# Altium footprint library E07-M1101D.PcbLib: 6 footprints
Each footprint in its own frame and in the unit in brackets; x right, y up, seen from the top. Pads: shape width x height; smd on the part's side, far side on the other; paste and mask are expansions set on the pad; w line width, h text height; cw(c..) or ccw(c..) is an arc to the next point about the centre after c.
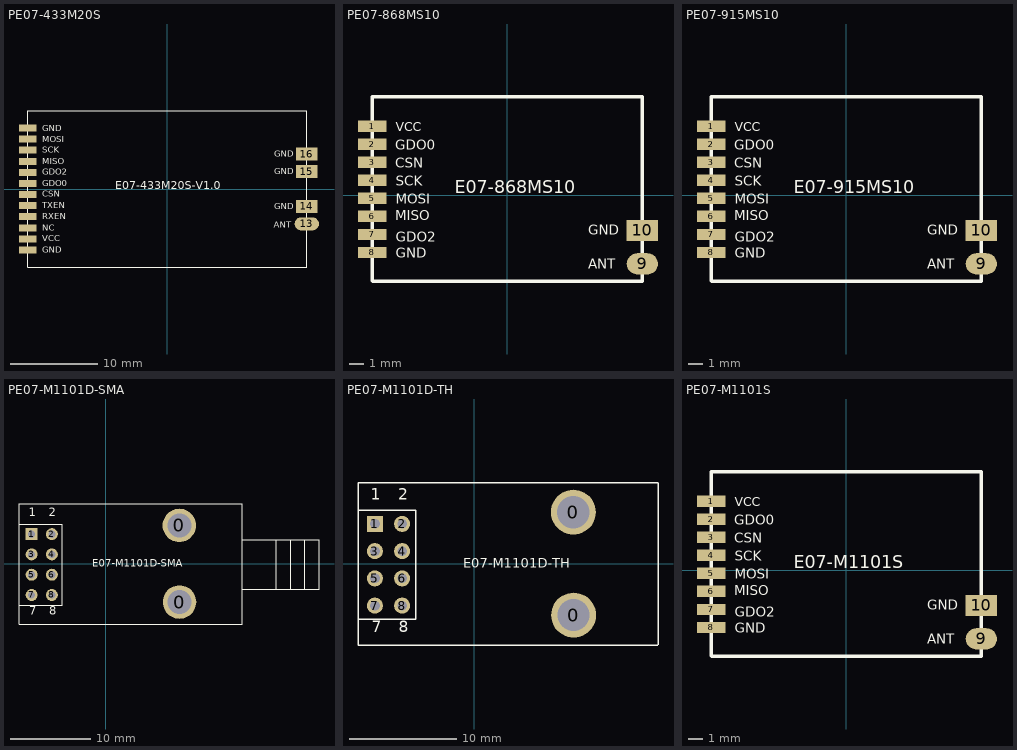
[diagram p0: the footprints below, top view; thin cyan lines are the x and y axes]

## PE07-433M20S [mm] "32mm*18mm*3.0mm-S"
pads (16):
  rect 2x0.8 smd: 1(-16,6.985) 2(-16,5.715) 3(-16,4.445) 4(-16,3.175) 5(-16,1.905) 6(-16,0.635) 7(-16,-0.635) 8(-16,-1.905) 9(-16,-3.175) 10(-16,-4.445) 11(-16,-5.715) 12(-16,-6.985)
  oval 2.8x1.5 smd: 13(16,-4)
  rect 2.5x1.5 smd: 14(16,-2) 15(16,2) 16(16,4)
Top Overlay:
  lines w0.127: -16,-9 16,-9 16,9 -16,9 -16,-9
  text "GND" at -14.33,6.63 h0.7
  text "MOSI" at -14.33,5.38 h0.7
  text "SCK" at -14.33,4.13 h0.7
  text "MISO" at -14.33,2.83 h0.7
  text "GDO2" at -14.33,1.63 h0.7
  text "GDO0" at -14.33,0.33 h0.7
  text "CSN" at -14.33,-0.87 h0.7
  text "TXEN" at -14.33,-2.22 h0.7
  text "RXEN" at -14.33,-3.47 h0.7
  text "NC" at -14.33,-4.77 h0.7
  text "VCC" at -14.33,-6.02 h0.7
  text "GND" at -14.33,-7.32 h0.7
  text "GND" at 12.28,3.72 h0.7
  text "GND" at 12.28,1.72 h0.7
  text "GND" at 12.29,-2.33 h0.7
  text "ANT" at 12.22,-4.44 h0.7
  text "E07-433M20S-V1.0" at -5.969,0 h0.9

## PE07-868MS10 [mm] "19mm*13mm*1.9mm-S"
pads (10):
  rect 2x0.8 smd: 1(-9.507,4.845) 2(-9.507,3.575) 3(-9.507,2.305) 4(-9.507,1.035) 5(-9.507,-0.235) 6(-9.507,-1.505) 7(-9.507,-2.775) 8(-9.507,-4.045)
  oval 2.2x1.5 smd: 9(9.507,-4.845)
  rect 2.2x1.5 smd: 10(9.507,-2.495)
Top Overlay:
  lines w0.254: -9.493,-6.044 -9.493,6.923 9.507,6.923 9.507,-6.077 -9.459,-6.077 -9.493,-6.044
  text "GND" at -7.853,-4.419 h0.7
  text "GDO2" at -7.853,-3.276 h0.7
  text "MISO" at -7.874,-1.778 h0.7
  text "MOSI" at -7.853,-0.609 h0.7
  text "SCK" at -7.853,0.661 h0.7
  text "CSN" at -7.874,1.905 h0.7
  text "GDO0" at -7.874,3.175 h0.7
  text "VCC" at -7.853,4.471 h0.65
  text "E07-868MS10" at -3.683,0.127 h0.9
  text "ANT" at 5.715,-5.207 h0.7
  text "GND" at 5.715,-2.794 h0.7

## PE07-915MS10 [mm] "19mm*13mm*1.9mm-S"
pads (10):
  rect 2x0.8 smd: 1(-9.507,4.845) 2(-9.507,3.575) 3(-9.507,2.305) 4(-9.507,1.035) 5(-9.507,-0.235) 6(-9.507,-1.505) 7(-9.507,-2.775) 8(-9.507,-4.045)
  oval 2.2x1.5 smd: 9(9.507,-4.845)
  rect 2.2x1.5 smd: 10(9.507,-2.495)
Top Overlay:
  lines w0.254: -9.493,-6.044 -9.459,-6.077 9.507,-6.077 9.507,6.923 -9.493,6.923 -9.493,-6.044
  text "GND" at 5.715,-2.794 h0.7
  text "ANT" at 5.715,-5.207 h0.7
  text "E07-915MS10" at -3.683,0.127 h0.9
  text "VCC" at -7.853,4.471 h0.65
  text "GDO0" at -7.874,3.175 h0.7
  text "CSN" at -7.874,1.905 h0.7
  text "SCK" at -7.853,0.661 h0.7
  text "MOSI" at -7.853,-0.609 h0.7
  text "MISO" at -7.874,-1.778 h0.7
  text "GDO2" at -7.853,-3.276 h0.7
  text "GND" at -7.853,-4.419 h0.7

## PE07-M1101D-SMA [mm] "39.6mm*15mm-D"
pads (10):
  round 4.2 hole 3: 0(9.236,4.799) 0(9.265,-4.799)
  rect 1.5x1.5 hole 0.9: 1(-9.264,3.704)
  round 1.5 hole 0.9: 2(-6.724,3.704) 3(-9.264,1.164) 4(-6.724,1.164) 5(-9.264,-1.376) 6(-6.724,-1.376) 7(-9.264,-3.916) 8(-6.724,-3.916)
Top Overlay:
  lines w0.127: -10.843,-5.186 -5.454,-5.186 -5.454,4.974 -10.843,4.974 ; 17.101,-7.587 -10.843,-7.587 -10.843,7.522 17.101,7.522 ; 17.131,-7.546 17.131,7.522 ; 17.131,-3.187 26.731,-3.187 26.731,3.013 17.131,3.013 ; 21.397,-3.187 21.397,3.013 ; 23.175,-3.187 23.175,3.013 ; 24.953,-3.187 24.953,3.013
  text "E07-M1101D-SMA" at -1.651,-0.381 h0.9
  text "2" at -7.112,5.588 h1.8
  text "1" at -9.652,5.588 h1.8
  text "7" at -9.583,-6.773 h1.8
  text "8" at -7.043,-6.773 h1.8

## PE07-M1101D-TH [mm] "39.6mm*15mm-D/TH天线版本需要注意模块总长"
pads (10):
  round 4.2 hole 3: 0(9.236,4.799) 0(9.265,-4.799)
  rect 1.5x1.5 hole 0.9: 1(-9.264,3.704)
  round 1.5 hole 0.9: 2(-6.724,3.704) 3(-9.264,1.164) 4(-6.724,1.164) 5(-9.264,-1.376) 6(-6.724,-1.376) 7(-9.264,-3.916) 8(-6.724,-3.916)
Top Overlay:
  lines w0.127: -10.843,-5.186 -5.454,-5.186 -5.454,4.974 -10.843,4.974 ; 17.101,-7.587 -10.843,-7.587 -10.843,7.522 17.101,7.522 ; 17.131,-7.546 17.131,7.522
  text "2" at -7.112,5.588 h1.8
  text "1" at -9.652,5.588 h1.8
  text "7" at -9.583,-6.773 h1.8
  text "8" at -7.043,-6.773 h1.8
  text "E07-M1101D-TH" at -1.016,-0.381 h0.9

## PE07-M1101S [mm]
pads (10):
  rect 2x0.8 smd: 1(-9.507,4.845) 2(-9.507,3.575) 3(-9.507,2.305) 4(-9.507,1.035) 5(-9.507,-0.235) 6(-9.507,-1.505) 7(-9.507,-2.775) 8(-9.507,-4.045)
  oval 2.2x1.5 smd: 9(9.507,-4.845)
  rect 2.2x1.5 smd: 10(9.507,-2.495)
Top Overlay:
  lines w0.254: -9.493,-6.044 -9.459,-6.077 9.507,-6.077 9.507,6.923 -9.493,6.923 -9.493,-6.044
  text "GND" at 5.715,-2.794 h0.7
  text "ANT" at 5.715,-5.207 h0.7
  text "E07-M1101S" at -3.683,0.127 h0.9
  text "VCC" at -7.853,4.471 h0.65
  text "GDO0" at -7.874,3.175 h0.7
  text "CSN" at -7.874,1.905 h0.7
  text "SCK" at -7.853,0.661 h0.7
  text "MOSI" at -7.853,-0.609 h0.7
  text "MISO" at -7.874,-1.778 h0.7
  text "GDO2" at -7.853,-3.276 h0.7
  text "GND" at -7.853,-4.419 h0.7